# EAGLE library part MAX5531 (library STAC)
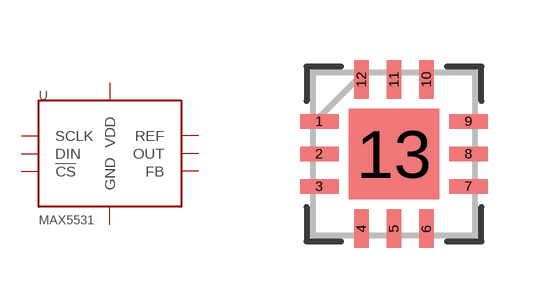
[diagram p10: symbol with the pads of 21-0139I_T1244-4; footprint 21-0139I_T1244-4]

Designator prefix U

## MAX5531  [21-0139I_T1244-4]
1  !CS
2  SCLK
3  DIN
4  REF
8  VDD
9  GND
10  OUT
12  FB

## Footprint 21-0139I_T1244-4 (pad centres in mm)
smd 0.965 x 0.356: 1 -1.867,0.813; 2 -1.867,0; 3 -1.867,-0.813; 7 1.867,-0.813; 8 1.867,0; 9 1.867,0.813
smd 0.356 x 0.965: 4 -0.813,-1.867; 5 0,-1.867; 6 0.813,-1.867; 10 0.813,1.867; 11 0,1.867; 12 -0.813,1.867
smd 2.261 x 2.261: 13 0,0